# Altium footprint library TerminalBlock_CUI.PcbLib: 23 footprints (part 1 of 2)
Each footprint in its own frame and in the unit in brackets; x right, y up, seen from the top. Pads: shape width x height; smd on the part's side, far side on the other; paste and mask are expansions set on the pad; w line width, h text height; cw(c..) or ccw(c..) is an arc to the next point about the centre after c.
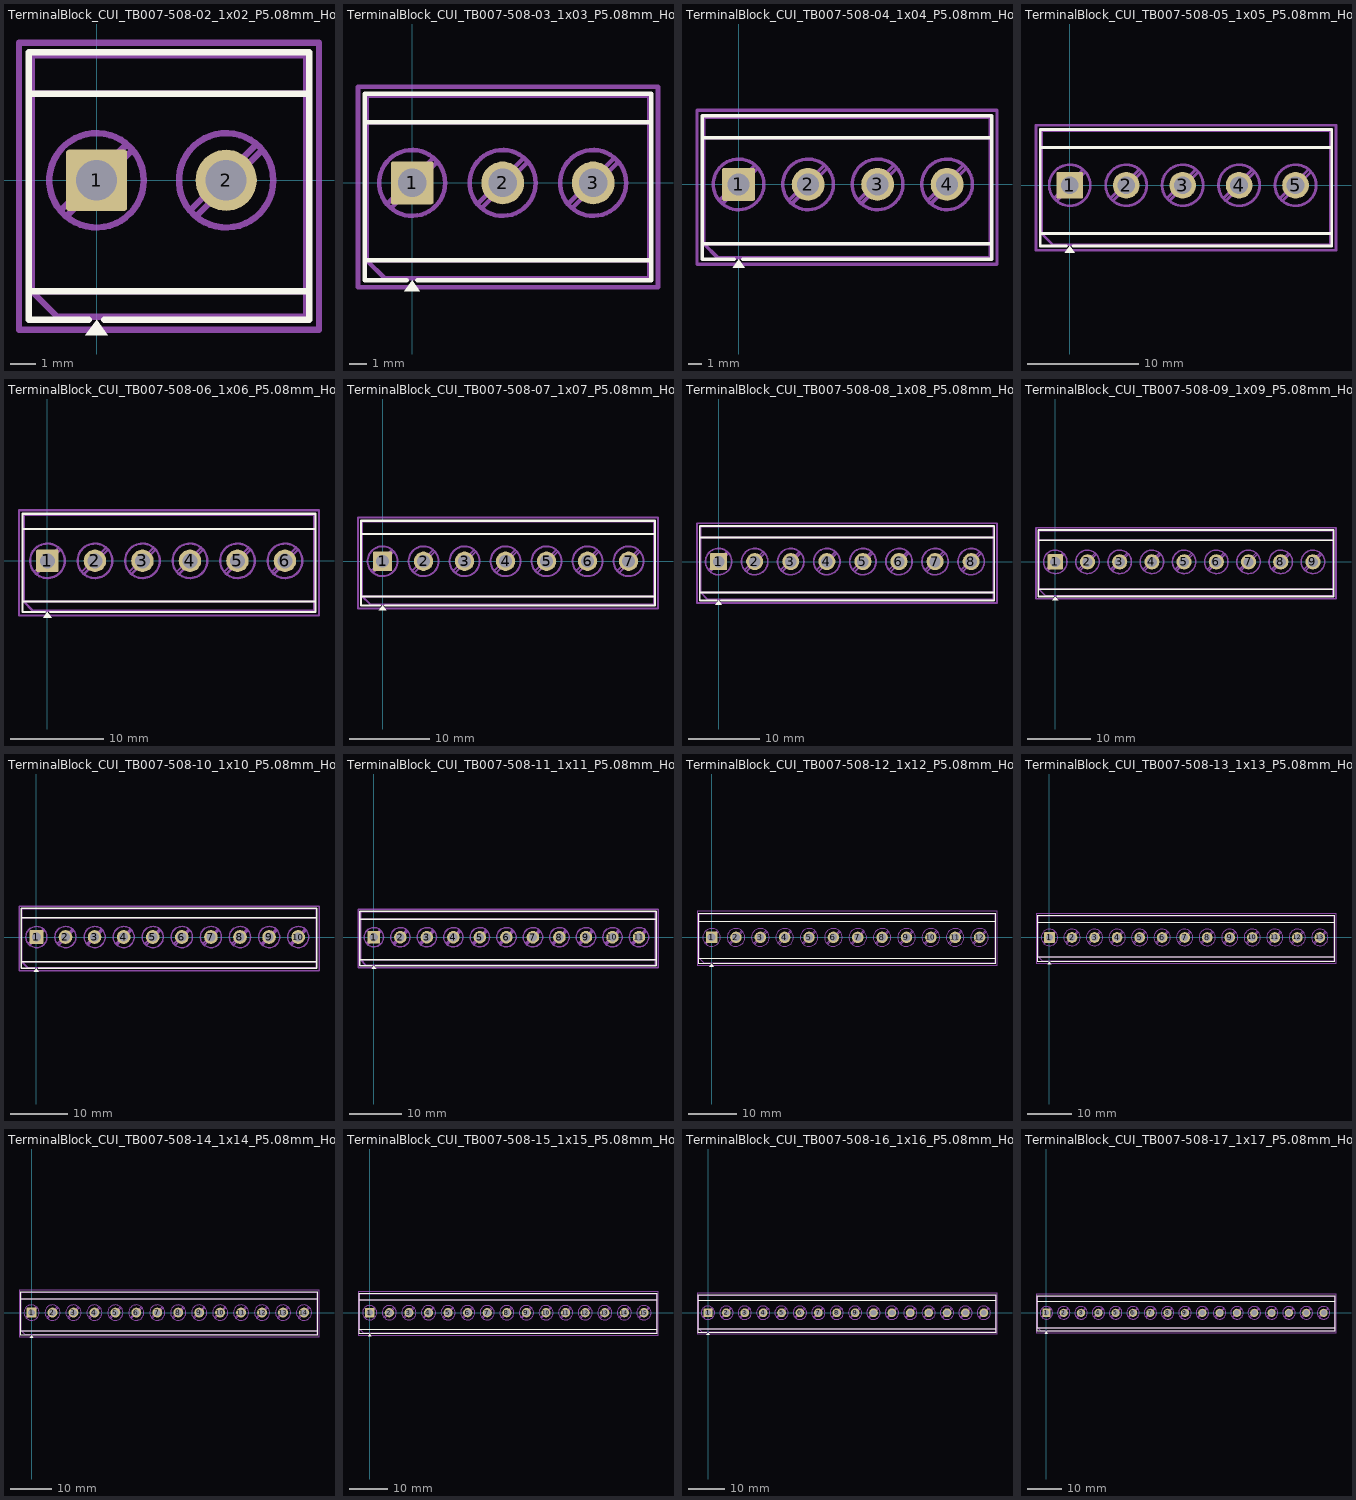
[diagram p0: the footprints below, top view; thin cyan lines are the x and y axes]

## TerminalBlock_CUI_TB007-508-02_1x02_P5.08mm_Horizontal [mm]
pads (2):
  rrect10% 2.4x2.4 hole 1.6: 1(0,0)
  round 2.4 hole 1.6: 2(5.08,0)
F.SilkS:
  region: 0.44,-6.08 -0.44,-6.08 0,-5.47
  lines w0.254: -2.66,-4.35 8.34,-4.35 ; -2.66,3.4 8.34,3.4 ; -0.3,-5.47 -2.66,-5.47 -2.66,5.02 8.34,5.02 8.34,-5.47 0.3,-5.47
F.Fab:
  circle w0.254: c0,0 r1.85
  circle w0.254: c5.08,0 r1.85
  lines w0.254: -2.54,3.4 8.22,3.4 ; -1.403,-1.177 1.177,1.403 ; -1.177,-1.403 1.403,1.177 ; 3.677,-1.177 6.257,1.403 ; 3.903,-1.403 6.483,1.177 ; 8.22,-4.35 -2.54,-4.35 ; -2.54,-4.35 -2.54,4.9 8.22,4.9 8.22,-5.35 -1.54,-5.35 -2.54,-4.35
  text "'.Designator'" at -1.207,-1.065 h1
F.CrtYd:
  lines w0.254: -3.04,-5.85 -3.04,5.4 8.72,5.4 8.72,-5.85 -3.04,-5.85

## TerminalBlock_CUI_TB007-508-03_1x03_P5.08mm_Horizontal [mm]
pads (3):
  rrect10% 2.4x2.4 hole 1.6: 1(0,0)
  round 2.4 hole 1.6: 2(5.08,0) 3(10.16,0)
F.SilkS:
  region: 0.44,-6.08 -0.44,-6.08 0,-5.47
  lines w0.254: -2.66,-4.35 13.42,-4.35 ; -2.66,3.4 13.42,3.4 ; -0.3,-5.47 -2.66,-5.47 -2.66,5.02 13.42,5.02 13.42,-5.47 0.3,-5.47
F.Fab:
  circle w0.254: c0,0 r1.85
  circle w0.254: c5.08,0 r1.85
  circle w0.254: c10.16,0 r1.85
  lines w0.254: -2.54,3.4 13.3,3.4 ; -1.403,-1.177 1.177,1.403 ; -1.177,-1.403 1.403,1.177 ; 3.677,-1.177 6.257,1.403 ; 3.903,-1.403 6.483,1.177 ; 8.757,-1.177 11.337,1.403 ; 8.983,-1.403 11.563,1.177 ; 13.3,-4.35 -2.54,-4.35 ; -2.54,-4.35 -2.54,4.9 13.3,4.9 13.3,-5.35 -1.54,-5.35 -2.54,-4.35
  text "'.Designator'" at 1.333,-1.065 h1
F.CrtYd:
  lines w0.254: -3.04,-5.85 -3.04,5.4 13.8,5.4 13.8,-5.85 -3.04,-5.85

## TerminalBlock_CUI_TB007-508-04_1x04_P5.08mm_Horizontal [mm]
pads (4):
  rrect10% 2.4x2.4 hole 1.6: 1(0,0)
  round 2.4 hole 1.6: 2(5.08,0) 3(10.16,0) 4(15.24,0)
F.SilkS:
  region: 0.44,-6.08 -0.44,-6.08 0,-5.47
  lines w0.254: -2.66,-4.35 18.5,-4.35 ; -2.66,3.4 18.5,3.4 ; -0.3,-5.47 -2.66,-5.47 -2.66,5.02 18.5,5.02 18.5,-5.47 0.3,-5.47
F.Fab:
  circle w0.254: c0,0 r1.85
  circle w0.254: c5.08,0 r1.85
  circle w0.254: c10.16,0 r1.85
  circle w0.254: c15.24,0 r1.85
  lines w0.254: -2.54,3.4 18.38,3.4 ; -1.403,-1.177 1.177,1.403 ; -1.177,-1.403 1.403,1.177 ; 3.677,-1.177 6.257,1.403 ; 3.903,-1.403 6.483,1.177 ; 8.757,-1.177 11.337,1.403 ; 8.983,-1.403 11.563,1.177 ; 13.837,-1.177 16.417,1.403 ; 14.063,-1.403 16.643,1.177 ; 18.38,-4.35 -2.54,-4.35 ; -2.54,-4.35 -2.54,4.9 18.38,4.9 18.38,-5.35 -1.54,-5.35 -2.54,-4.35
  text "'.Designator'" at 3.873,-1.065 h1
F.CrtYd:
  lines w0.254: -3.04,-5.85 -3.04,5.4 18.89,5.4 18.89,-5.85 -3.04,-5.85

## TerminalBlock_CUI_TB007-508-05_1x05_P5.08mm_Horizontal [mm]
pads (5):
  rrect10% 2.4x2.4 hole 1.6: 1(0,0)
  round 2.4 hole 1.6: 2(5.08,0) 3(10.16,0) 4(15.24,0) 5(20.32,0)
F.SilkS:
  region: 0.44,-6.08 -0.44,-6.08 0,-5.47
  lines w0.254: -2.66,-4.35 23.58,-4.35 ; -2.66,3.4 23.58,3.4 ; -0.3,-5.47 -2.66,-5.47 -2.66,5.02 23.58,5.02 23.58,-5.47 0.3,-5.47
F.Fab:
  circle w0.254: c0,0 r1.85
  circle w0.254: c5.08,0 r1.85
  circle w0.254: c10.16,0 r1.85
  circle w0.254: c15.24,0 r1.85
  circle w0.254: c20.32,0 r1.85
  lines w0.254: -2.54,3.4 23.46,3.4 ; -1.403,-1.177 1.177,1.403 ; -1.177,-1.403 1.403,1.177 ; 3.677,-1.177 6.257,1.403 ; 3.903,-1.403 6.483,1.177 ; 8.757,-1.177 11.337,1.403 ; 8.983,-1.403 11.563,1.177 ; 13.837,-1.177 16.417,1.403 ; 14.063,-1.403 16.643,1.177 ; 18.917,-1.177 21.497,1.403 ; 19.143,-1.403 21.723,1.177 ; 23.46,-4.35 -2.54,-4.35 ; -2.54,-4.35 -2.54,4.9 23.46,4.9 23.46,-5.35 -1.54,-5.35 -2.54,-4.35
  text "'.Designator'" at 6.413,-1.065 h1
F.CrtYd:
  lines w0.254: -3.04,-5.85 -3.04,5.4 23.96,5.4 23.96,-5.85 -3.04,-5.85

## TerminalBlock_CUI_TB007-508-06_1x06_P5.08mm_Horizontal [mm]
pads (6):
  rrect10% 2.4x2.4 hole 1.6: 1(0,0)
  round 2.4 hole 1.6: 2(5.08,0) 3(10.16,0) 4(15.24,0) 5(20.32,0) 6(25.4,0)
F.SilkS:
  region: 0.44,-6.08 -0.44,-6.08 0,-5.47
  lines w0.254: -2.66,-4.35 28.66,-4.35 ; -2.66,3.4 28.66,3.4 ; -0.3,-5.47 -2.66,-5.47 -2.66,5.02 28.66,5.02 28.66,-5.47 0.3,-5.47
F.Fab:
  circle w0.254: c0,0 r1.85
  circle w0.254: c5.08,0 r1.85
  circle w0.254: c10.16,0 r1.85
  circle w0.254: c15.24,0 r1.85
  circle w0.254: c20.32,0 r1.85
  circle w0.254: c25.4,0 r1.85
  lines w0.254: -2.54,3.4 28.54,3.4 ; -1.403,-1.177 1.177,1.403 ; -1.177,-1.403 1.403,1.177 ; 3.677,-1.177 6.257,1.403 ; 3.903,-1.403 6.483,1.177 ; 8.757,-1.177 11.337,1.403 ; 8.983,-1.403 11.563,1.177 ; 13.837,-1.177 16.417,1.403 ; 14.063,-1.403 16.643,1.177 ; 18.917,-1.177 21.497,1.403 ; 19.143,-1.403 21.723,1.177 ; 23.997,-1.177 26.577,1.403 ; 24.223,-1.403 26.803,1.177 ; 28.54,-4.35 -2.54,-4.35 ; -2.54,-4.35 -2.54,4.9 28.54,4.9 28.54,-5.35 -1.54,-5.35 -2.54,-4.35
  text "'.Designator'" at 8.953,-1.065 h1
F.CrtYd:
  lines w0.254: -3.04,-5.85 -3.04,5.4 29.04,5.4 29.04,-5.85 -3.04,-5.85

## TerminalBlock_CUI_TB007-508-07_1x07_P5.08mm_Horizontal [mm]
pads (7):
  rrect10% 2.4x2.4 hole 1.6: 1(0,0)
  round 2.4 hole 1.6: 2(5.08,0) 3(10.16,0) 4(15.24,0) 5(20.32,0) 6(25.4,0) 7(30.48,0)
F.SilkS:
  region: 0.44,-6.08 -0.44,-6.08 0,-5.47
  lines w0.254: -2.66,-4.35 33.74,-4.35 ; -2.66,3.4 33.74,3.4 ; -0.3,-5.47 -2.66,-5.47 -2.66,5.02 33.74,5.02 33.74,-5.47 0.3,-5.47
F.Fab:
  circle w0.254: c0,0 r1.85
  circle w0.254: c5.08,0 r1.85
  circle w0.254: c10.16,0 r1.85
  circle w0.254: c15.24,0 r1.85
  circle w0.254: c20.32,0 r1.85
  circle w0.254: c25.4,0 r1.85
  circle w0.254: c30.48,0 r1.85
  lines w0.254: -2.54,3.4 33.62,3.4 ; -1.403,-1.177 1.177,1.403 ; -1.177,-1.403 1.403,1.177 ; 3.677,-1.177 6.257,1.403 ; 3.903,-1.403 6.483,1.177 ; 8.757,-1.177 11.337,1.403 ; 8.983,-1.403 11.563,1.177 ; 13.837,-1.177 16.417,1.403 ; 14.063,-1.403 16.643,1.177 ; 18.917,-1.177 21.497,1.403 ; 19.143,-1.403 21.723,1.177 ; 23.997,-1.177 26.577,1.403 ; 24.223,-1.403 26.803,1.177 ; 29.077,-1.177 31.657,1.403 ; 29.303,-1.403 31.883,1.177 ; 33.62,-4.35 -2.54,-4.35 ; -2.54,-4.35 -2.54,4.9 33.62,4.9 33.62,-5.35 -1.54,-5.35 -2.54,-4.35
  text "'.Designator'" at 11.493,-1.065 h1
F.CrtYd:
  lines w0.254: -3.04,-5.85 -3.04,5.4 34.12,5.4 34.12,-5.85 -3.04,-5.85

## TerminalBlock_CUI_TB007-508-08_1x08_P5.08mm_Horizontal [mm]
pads (8):
  rrect10% 2.4x2.4 hole 1.6: 1(0,0)
  round 2.4 hole 1.6: 2(5.08,0) 3(10.16,0) 4(15.24,0) 5(20.32,0) 6(25.4,0) 7(30.48,0) 8(35.56,0)
F.SilkS:
  region: 0.44,-6.08 -0.44,-6.08 0,-5.47
  lines w0.254: -2.66,-4.35 38.82,-4.35 ; -2.66,3.4 38.82,3.4 ; -0.3,-5.47 -2.66,-5.47 -2.66,5.02 38.82,5.02 38.82,-5.47 0.3,-5.47
F.Fab:
  circle w0.254: c0,0 r1.85
  circle w0.254: c5.08,0 r1.85
  circle w0.254: c10.16,0 r1.85
  circle w0.254: c15.24,0 r1.85
  circle w0.254: c20.32,0 r1.85
  circle w0.254: c25.4,0 r1.85
  circle w0.254: c30.48,0 r1.85
  circle w0.254: c35.56,0 r1.85
  lines w0.254: -2.54,3.4 38.7,3.4 ; -1.403,-1.177 1.177,1.403 ; -1.177,-1.403 1.403,1.177 ; 3.677,-1.177 6.257,1.403 ; 3.903,-1.403 6.483,1.177 ; 8.757,-1.177 11.337,1.403 ; 8.983,-1.403 11.563,1.177 ; 13.837,-1.177 16.417,1.403 ; 14.063,-1.403 16.643,1.177 ; 18.917,-1.177 21.497,1.403 ; 19.143,-1.403 21.723,1.177 ; 23.997,-1.177 26.577,1.403 ; 24.223,-1.403 26.803,1.177 ; 29.077,-1.177 31.657,1.403 ; 29.303,-1.403 31.883,1.177 ; 34.157,-1.177 36.737,1.403 ; 34.383,-1.403 36.963,1.177 ; 38.7,-4.35 -2.54,-4.35 ; -2.54,-4.35 -2.54,4.9 38.7,4.9 38.7,-5.35 -1.54,-5.35 -2.54,-4.35
  text "'.Designator'" at 14.033,-1.065 h1
F.CrtYd:
  lines w0.254: -3.04,-5.85 -3.04,5.4 39.2,5.4 39.2,-5.85 -3.04,-5.85

## TerminalBlock_CUI_TB007-508-09_1x09_P5.08mm_Horizontal [mm]
pads (9):
  rrect10% 2.4x2.4 hole 1.6: 1(0,0)
  round 2.4 hole 1.6: 2(5.08,0) 3(10.16,0) 4(15.24,0) 5(20.32,0) 6(25.4,0) 7(30.48,0) 8(35.56,0) 9(40.64,0)
F.SilkS:
  region: 0.44,-6.08 -0.44,-6.08 0,-5.47
  lines w0.254: -2.66,-4.35 43.9,-4.35 ; -2.66,3.4 43.9,3.4 ; -0.3,-5.47 -2.66,-5.47 -2.66,5.02 43.9,5.02 43.9,-5.47 0.3,-5.47
F.Fab:
  circle w0.254: c0,0 r1.85
  circle w0.254: c5.08,0 r1.85
  circle w0.254: c10.16,0 r1.85
  circle w0.254: c15.24,0 r1.85
  circle w0.254: c20.32,0 r1.85
  circle w0.254: c25.4,0 r1.85
  circle w0.254: c30.48,0 r1.85
  circle w0.254: c35.56,0 r1.85
  circle w0.254: c40.64,0 r1.85
  lines w0.254: -2.54,3.4 43.78,3.4 ; -1.403,-1.177 1.177,1.403 ; -1.177,-1.403 1.403,1.177 ; 3.677,-1.177 6.257,1.403 ; 3.903,-1.403 6.483,1.177 ; 8.757,-1.177 11.337,1.403 ; 8.983,-1.403 11.563,1.177 ; 13.837,-1.177 16.417,1.403 ; 14.063,-1.403 16.643,1.177 ; 18.917,-1.177 21.497,1.403 ; 19.143,-1.403 21.723,1.177 ; 23.997,-1.177 26.577,1.403 ; 24.223,-1.403 26.803,1.177 ; 29.077,-1.177 31.657,1.403 ; 29.303,-1.403 31.883,1.177 ; 34.157,-1.177 36.737,1.403 ; 34.383,-1.403 36.963,1.177 ; 39.237,-1.177 41.817,1.403 ; 39.463,-1.403 42.043,1.177 ; 43.78,-4.35 -2.54,-4.35 ; -2.54,-4.35 -2.54,4.9 43.78,4.9 43.78,-5.35 -1.54,-5.35 -2.54,-4.35
  text "'.Designator'" at 16.573,-1.065 h1
F.CrtYd:
  lines w0.254: -3.04,-5.85 -3.04,5.4 44.28,5.4 44.28,-5.85 -3.04,-5.85

## TerminalBlock_CUI_TB007-508-10_1x10_P5.08mm_Horizontal [mm]
pads (10):
  rrect10% 2.4x2.4 hole 1.6: 1(0,0)
  round 2.4 hole 1.6: 2(5.08,0) 3(10.16,0) 4(15.24,0) 5(20.32,0) 6(25.4,0) 7(30.48,0) 8(35.56,0) 9(40.64,0) 10(45.72,0)
F.SilkS:
  region: 0.44,-6.08 -0.44,-6.08 0,-5.47
  lines w0.254: -2.66,-4.35 48.98,-4.35 ; -2.66,3.4 48.98,3.4 ; -0.3,-5.47 -2.66,-5.47 -2.66,5.02 48.98,5.02 48.98,-5.47 0.3,-5.47
F.Fab:
  circle w0.254: c0,0 r1.85
  circle w0.254: c5.08,0 r1.85
  circle w0.254: c10.16,0 r1.85
  circle w0.254: c15.24,0 r1.85
  circle w0.254: c20.32,0 r1.85
  circle w0.254: c25.4,0 r1.85
  circle w0.254: c30.48,0 r1.85
  circle w0.254: c35.56,0 r1.85
  circle w0.254: c40.64,0 r1.85
  circle w0.254: c45.72,0 r1.85
  lines w0.254: -2.54,3.4 48.86,3.4 ; -1.403,-1.177 1.177,1.403 ; -1.177,-1.403 1.403,1.177 ; 3.677,-1.177 6.257,1.403 ; 3.903,-1.403 6.483,1.177 ; 8.757,-1.177 11.337,1.403 ; 8.983,-1.403 11.563,1.177 ; 13.837,-1.177 16.417,1.403 ; 14.063,-1.403 16.643,1.177 ; 18.917,-1.177 21.497,1.403 ; 19.143,-1.403 21.723,1.177 ; 23.997,-1.177 26.577,1.403 ; 24.223,-1.403 26.803,1.177 ; 29.077,-1.177 31.657,1.403 ; 29.303,-1.403 31.883,1.177 ; 34.157,-1.177 36.737,1.403 ; 34.383,-1.403 36.963,1.177 ; 39.237,-1.177 41.817,1.403 ; 39.463,-1.403 42.043,1.177 ; 44.317,-1.177 46.897,1.403 ; 44.543,-1.403 47.123,1.177 ; 48.86,-4.35 -2.54,-4.35 ; -2.54,-4.35 -2.54,4.9 48.86,4.9 48.86,-5.35 -1.54,-5.35 -2.54,-4.35
  text "'.Designator'" at 19.113,-1.065 h1
F.CrtYd:
  lines w0.254: -3.04,-5.85 -3.04,5.4 49.36,5.4 49.36,-5.85 -3.04,-5.85

## TerminalBlock_CUI_TB007-508-11_1x11_P5.08mm_Horizontal [mm]
pads (11):
  rrect10% 2.4x2.4 hole 1.6: 1(0,0)
  round 2.4 hole 1.6: 2(5.08,0) 3(10.16,0) 4(15.24,0) 5(20.32,0) 6(25.4,0) 7(30.48,0) 8(35.56,0) 9(40.64,0) 10(45.72,0) 11(50.8,0)
F.SilkS:
  region: 0.44,-6.08 -0.44,-6.08 0,-5.47
  lines w0.254: -2.66,-4.35 54.06,-4.35 ; -2.66,3.4 54.06,3.4 ; -0.3,-5.47 -2.66,-5.47 -2.66,5.02 54.06,5.02 54.06,-5.47 0.3,-5.47
F.Fab:
  circle w0.254: c0,0 r1.85
  circle w0.254: c5.08,0 r1.85
  circle w0.254: c10.16,0 r1.85
  circle w0.254: c15.24,0 r1.85
  circle w0.254: c20.32,0 r1.85
  circle w0.254: c25.4,0 r1.85
  circle w0.254: c30.48,0 r1.85
  circle w0.254: c35.56,0 r1.85
  circle w0.254: c40.64,0 r1.85
  circle w0.254: c45.72,0 r1.85
  circle w0.254: c50.8,0 r1.85
  lines w0.254: -2.54,3.4 53.94,3.4 ; -1.403,-1.177 1.177,1.403 ; -1.177,-1.403 1.403,1.177 ; 3.677,-1.177 6.257,1.403 ; 3.903,-1.403 6.483,1.177 ; 8.757,-1.177 11.337,1.403 ; 8.983,-1.403 11.563,1.177 ; 13.837,-1.177 16.417,1.403 ; 14.063,-1.403 16.643,1.177 ; 18.917,-1.177 21.497,1.403 ; 19.143,-1.403 21.723,1.177 ; 23.997,-1.177 26.577,1.403 ; 24.223,-1.403 26.803,1.177 ; 29.077,-1.177 31.657,1.403 ; 29.303,-1.403 31.883,1.177 ; 34.157,-1.177 36.737,1.403 ; 34.383,-1.403 36.963,1.177 ; 39.237,-1.177 41.817,1.403 ; 39.463,-1.403 42.043,1.177 ; 44.317,-1.177 46.897,1.403 ; 44.543,-1.403 47.123,1.177 ; 49.397,-1.177 51.977,1.403 ; 49.623,-1.403 52.203,1.177 ; 53.94,-4.35 -2.54,-4.35 ; -2.54,-4.35 -2.54,4.9 53.94,4.9 53.94,-5.35 -1.54,-5.35 -2.54,-4.35
  text "'.Designator'" at 21.653,-1.065 h1
F.CrtYd:
  lines w0.254: -3.04,-5.85 -3.04,5.4 54.44,5.4 54.44,-5.85 -3.04,-5.85

## TerminalBlock_CUI_TB007-508-12_1x12_P5.08mm_Horizontal [mm]
pads (12):
  rrect10% 2.4x2.4 hole 1.6: 1(0,0)
  round 2.4 hole 1.6: 2(5.08,0) 3(10.16,0) 4(15.24,0) 5(20.32,0) 6(25.4,0) 7(30.48,0) 8(35.56,0) 9(40.64,0) 10(45.72,0) 11(50.8,0) 12(55.88,0)
F.SilkS:
  region: 0.44,-6.08 -0.44,-6.08 0,-5.47
  lines w0.254: -2.66,-4.35 59.14,-4.35 ; -2.66,3.4 59.14,3.4 ; -0.3,-5.47 -2.66,-5.47 -2.66,5.02 59.14,5.02 59.14,-5.47 0.3,-5.47
F.Fab:
  circle w0.254: c0,0 r1.85
  circle w0.254: c5.08,0 r1.85
  circle w0.254: c10.16,0 r1.85
  circle w0.254: c15.24,0 r1.85
  circle w0.254: c20.32,0 r1.85
  circle w0.254: c25.4,0 r1.85
  circle w0.254: c30.48,0 r1.85
  circle w0.254: c35.56,0 r1.85
  circle w0.254: c40.64,0 r1.85
  circle w0.254: c45.72,0 r1.85
  circle w0.254: c50.8,0 r1.85
  circle w0.254: c55.88,0 r1.85
  lines w0.254: -2.54,3.4 59.02,3.4 ; -1.403,-1.177 1.177,1.403 ; -1.177,-1.403 1.403,1.177 ; 3.677,-1.177 6.257,1.403 ; 3.903,-1.403 6.483,1.177 ; 8.757,-1.177 11.337,1.403 ; 8.983,-1.403 11.563,1.177 ; 13.837,-1.177 16.417,1.403 ; 14.063,-1.403 16.643,1.177 ; 18.917,-1.177 21.497,1.403 ; 19.143,-1.403 21.723,1.177 ; 23.997,-1.177 26.577,1.403 ; 24.223,-1.403 26.803,1.177 ; 29.077,-1.177 31.657,1.403 ; 29.303,-1.403 31.883,1.177 ; 34.157,-1.177 36.737,1.403 ; 34.383,-1.403 36.963,1.177 ; 39.237,-1.177 41.817,1.403 ; 39.463,-1.403 42.043,1.177 ; 44.317,-1.177 46.897,1.403 ; 44.543,-1.403 47.123,1.177 ; 49.397,-1.177 51.977,1.403 ; 49.623,-1.403 52.203,1.177 ; 54.477,-1.177 57.057,1.403 ; 54.703,-1.403 57.283,1.177 ; 59.02,-4.35 -2.54,-4.35 ; -2.54,-4.35 -2.54,4.9 59.02,4.9 59.02,-5.35 -1.54,-5.35 -2.54,-4.35
  text "'.Designator'" at 24.193,-1.065 h1
F.CrtYd:
  lines w0.254: -3.04,-5.85 -3.04,5.4 59.52,5.4 59.52,-5.85 -3.04,-5.85

## TerminalBlock_CUI_TB007-508-13_1x13_P5.08mm_Horizontal [mm]
pads (13):
  rrect10% 2.4x2.4 hole 1.6: 1(0,0)
  round 2.4 hole 1.6: 2(5.08,0) 3(10.16,0) 4(15.24,0) 5(20.32,0) 6(25.4,0) 7(30.48,0) 8(35.56,0) 9(40.64,0) 10(45.72,0) 11(50.8,0) 12(55.88,0) 13(60.96,0)
F.SilkS:
  region: 0.44,-6.08 -0.44,-6.08 0,-5.47
  lines w0.254: -2.66,-4.35 64.22,-4.35 ; -2.66,3.4 64.22,3.4 ; -0.3,-5.47 -2.66,-5.47 -2.66,5.02 64.22,5.02 64.22,-5.47 0.3,-5.47
F.Fab:
  circle w0.254: c0,0 r1.85
  circle w0.254: c5.08,0 r1.85
  circle w0.254: c10.16,0 r1.85
  circle w0.254: c15.24,0 r1.85
  circle w0.254: c20.32,0 r1.85
  circle w0.254: c25.4,0 r1.85
  circle w0.254: c30.48,0 r1.85
  circle w0.254: c35.56,0 r1.85
  circle w0.254: c40.64,0 r1.85
  circle w0.254: c45.72,0 r1.85
  circle w0.254: c50.8,0 r1.85
  circle w0.254: c55.88,0 r1.85
  circle w0.254: c60.96,0 r1.85
  lines w0.254: -2.54,3.4 64.1,3.4 ; -1.403,-1.177 1.177,1.403 ; -1.177,-1.403 1.403,1.177 ; 3.677,-1.177 6.257,1.403 ; 3.903,-1.403 6.483,1.177 ; 8.757,-1.177 11.337,1.403 ; 8.983,-1.403 11.563,1.177 ; 13.837,-1.177 16.417,1.403 ; 14.063,-1.403 16.643,1.177 ; 18.917,-1.177 21.497,1.403 ; 19.143,-1.403 21.723,1.177 ; 23.997,-1.177 26.577,1.403 ; 24.223,-1.403 26.803,1.177 ; 29.077,-1.177 31.657,1.403 ; 29.303,-1.403 31.883,1.177 ; 34.157,-1.177 36.737,1.403 ; 34.383,-1.403 36.963,1.177 ; 39.237,-1.177 41.817,1.403 ; 39.463,-1.403 42.043,1.177 ; 44.317,-1.177 46.897,1.403 ; 44.543,-1.403 47.123,1.177 ; 49.397,-1.177 51.977,1.403 ; 49.623,-1.403 52.203,1.177 ; 54.477,-1.177 57.057,1.403 ; 54.703,-1.403 57.283,1.177 ; 59.557,-1.177 62.137,1.403 ; 59.783,-1.403 62.363,1.177 ; 64.1,-4.35 -2.54,-4.35 ; -2.54,-4.35 -2.54,4.9 64.1,4.9 64.1,-5.35 -1.54,-5.35 -2.54,-4.35
  text "'.Designator'" at 26.733,-1.065 h1
F.CrtYd:
  lines w0.254: -3.04,-5.85 -3.04,5.4 64.6,5.4 64.6,-5.85 -3.04,-5.85

## TerminalBlock_CUI_TB007-508-14_1x14_P5.08mm_Horizontal [mm]
pads (14):
  rrect10% 2.4x2.4 hole 1.6: 1(0,0)
  round 2.4 hole 1.6: 2(5.08,0) 3(10.16,0) 4(15.24,0) 5(20.32,0) 6(25.4,0) 7(30.48,0) 8(35.56,0) 9(40.64,0) 10(45.72,0) 11(50.8,0) 12(55.88,0) 13(60.96,0) 14(66.04,0)
F.SilkS:
  region: 0.44,-6.08 -0.44,-6.08 0,-5.47
  lines w0.254: -2.66,-4.35 69.3,-4.35 ; -2.66,3.4 69.3,3.4 ; -0.3,-5.47 -2.66,-5.47 -2.66,5.02 69.3,5.02 69.3,-5.47 0.3,-5.47
F.Fab:
  circle w0.254: c0,0 r1.85
  circle w0.254: c5.08,0 r1.85
  circle w0.254: c10.16,0 r1.85
  circle w0.254: c15.24,0 r1.85
  circle w0.254: c20.32,0 r1.85
  circle w0.254: c25.4,0 r1.85
  circle w0.254: c30.48,0 r1.85
  circle w0.254: c35.56,0 r1.85
  circle w0.254: c40.64,0 r1.85
  circle w0.254: c45.72,0 r1.85
  circle w0.254: c50.8,0 r1.85
  circle w0.254: c55.88,0 r1.85
  circle w0.254: c60.96,0 r1.85
  circle w0.254: c66.04,0 r1.85
  lines w0.254: -2.54,3.4 69.18,3.4 ; -1.403,-1.177 1.177,1.403 ; -1.177,-1.403 1.403,1.177 ; 3.677,-1.177 6.257,1.403 ; 3.903,-1.403 6.483,1.177 ; 8.757,-1.177 11.337,1.403 ; 8.983,-1.403 11.563,1.177 ; 13.837,-1.177 16.417,1.403 ; 14.063,-1.403 16.643,1.177 ; 18.917,-1.177 21.497,1.403 ; 19.143,-1.403 21.723,1.177 ; 23.997,-1.177 26.577,1.403 ; 24.223,-1.403 26.803,1.177 ; 29.077,-1.177 31.657,1.403 ; 29.303,-1.403 31.883,1.177 ; 34.157,-1.177 36.737,1.403 ; 34.383,-1.403 36.963,1.177 ; 39.237,-1.177 41.817,1.403 ; 39.463,-1.403 42.043,1.177 ; 44.317,-1.177 46.897,1.403 ; 44.543,-1.403 47.123,1.177 ; 49.397,-1.177 51.977,1.403 ; 49.623,-1.403 52.203,1.177 ; 54.477,-1.177 57.057,1.403 ; 54.703,-1.403 57.283,1.177 ; 59.557,-1.177 62.137,1.403 ; 59.783,-1.403 62.363,1.177 ; 64.637,-1.177 67.217,1.403 ; 64.863,-1.403 67.443,1.177 ; 69.18,-4.35 -2.54,-4.35 ; -2.54,-4.35 -2.54,4.9 69.18,4.9 69.18,-5.35 -1.54,-5.35 -2.54,-4.35
  text "'.Designator'" at 29.273,-1.065 h1
F.CrtYd:
  lines w0.254: -3.04,-5.85 -3.04,5.4 69.68,5.4 69.68,-5.85 -3.04,-5.85

## TerminalBlock_CUI_TB007-508-15_1x15_P5.08mm_Horizontal [mm]
pads (15):
  rrect10% 2.4x2.4 hole 1.6: 1(0,0)
  round 2.4 hole 1.6: 2(5.08,0) 3(10.16,0) 4(15.24,0) 5(20.32,0) 6(25.4,0) 7(30.48,0) 8(35.56,0) 9(40.64,0) 10(45.72,0) 11(50.8,0) 12(55.88,0) 13(60.96,0) 14(66.04,0) 15(71.12,0)
F.SilkS:
  region: 0.44,-6.08 -0.44,-6.08 0,-5.47
  lines w0.254: -2.66,-4.35 74.38,-4.35 ; -2.66,3.4 74.38,3.4 ; -0.3,-5.47 -2.66,-5.47 -2.66,5.02 74.38,5.02 74.38,-5.47 0.3,-5.47
F.Fab:
  circle w0.254: c0,0 r1.85
  circle w0.254: c5.08,0 r1.85
  circle w0.254: c10.16,0 r1.85
  circle w0.254: c15.24,0 r1.85
  circle w0.254: c20.32,0 r1.85
  circle w0.254: c25.4,0 r1.85
  circle w0.254: c30.48,0 r1.85
  circle w0.254: c35.56,0 r1.85
  circle w0.254: c40.64,0 r1.85
  circle w0.254: c45.72,0 r1.85
  circle w0.254: c50.8,0 r1.85
  circle w0.254: c55.88,0 r1.85
  circle w0.254: c60.96,0 r1.85
  circle w0.254: c66.04,0 r1.85
  circle w0.254: c71.12,0 r1.85
  lines w0.254: -2.54,3.4 74.26,3.4 ; -1.403,-1.177 1.177,1.403 ; -1.177,-1.403 1.403,1.177 ; 3.677,-1.177 6.257,1.403 ; 3.903,-1.403 6.483,1.177 ; 8.757,-1.177 11.337,1.403 ; 8.983,-1.403 11.563,1.177 ; 13.837,-1.177 16.417,1.403 ; 14.063,-1.403 16.643,1.177 ; 18.917,-1.177 21.497,1.403 ; 19.143,-1.403 21.723,1.177 ; 23.997,-1.177 26.577,1.403 ; 24.223,-1.403 26.803,1.177 ; 29.077,-1.177 31.657,1.403 ; 29.303,-1.403 31.883,1.177 ; 34.157,-1.177 36.737,1.403 ; 34.383,-1.403 36.963,1.177 ; 39.237,-1.177 41.817,1.403 ; 39.463,-1.403 42.043,1.177 ; 44.317,-1.177 46.897,1.403 ; 44.543,-1.403 47.123,1.177 ; 49.397,-1.177 51.977,1.403 ; 49.623,-1.403 52.203,1.177 ; 54.477,-1.177 57.057,1.403 ; 54.703,-1.403 57.283,1.177 ; 59.557,-1.177 62.137,1.403 ; 59.783,-1.403 62.363,1.177 ; 64.637,-1.177 67.217,1.403 ; 64.863,-1.403 67.443,1.177 ; 69.717,-1.177 72.297,1.403 ; 69.943,-1.403 72.523,1.177 ; 74.26,-4.35 -2.54,-4.35 ; -2.54,-4.35 -2.54,4.9 74.26,4.9 74.26,-5.35 -1.54,-5.35 -2.54,-4.35
  text "'.Designator'" at 31.813,-1.065 h1
F.CrtYd:
  lines w0.254: -3.04,-5.85 -3.04,5.4 74.76,5.4 74.76,-5.85 -3.04,-5.85

## TerminalBlock_CUI_TB007-508-16_1x16_P5.08mm_Horizontal [mm]
pads (16):
  rrect10% 2.4x2.4 hole 1.6: 1(0,0)
  round 2.4 hole 1.6: 2(5.08,0) 3(10.16,0) 4(15.24,0) 5(20.32,0) 6(25.4,0) 7(30.48,0) 8(35.56,0) 9(40.64,0) 10(45.72,0) 11(50.8,0) 12(55.88,0) 13(60.96,0) 14(66.04,0) 15(71.12,0) 16(76.2,0)
F.SilkS:
  region: 0.44,-6.08 -0.44,-6.08 0,-5.47
  lines w0.254: -2.66,-4.35 79.46,-4.35 ; -2.66,3.4 79.46,3.4 ; -0.3,-5.47 -2.66,-5.47 -2.66,5.02 79.46,5.02 79.46,-5.47 0.3,-5.47
F.Fab:
  circle w0.254: c0,0 r1.85
  circle w0.254: c5.08,0 r1.85
  circle w0.254: c10.16,0 r1.85
  circle w0.254: c15.24,0 r1.85
  circle w0.254: c20.32,0 r1.85
  circle w0.254: c25.4,0 r1.85
  circle w0.254: c30.48,0 r1.85
  circle w0.254: c35.56,0 r1.85
  circle w0.254: c40.64,0 r1.85
  circle w0.254: c45.72,0 r1.85
  circle w0.254: c50.8,0 r1.85
  circle w0.254: c55.88,0 r1.85
  circle w0.254: c60.96,0 r1.85
  circle w0.254: c66.04,0 r1.85
  circle w0.254: c71.12,0 r1.85
  circle w0.254: c76.2,0 r1.85
  lines w0.254: -2.54,3.4 79.34,3.4 ; -1.403,-1.177 1.177,1.403 ; -1.177,-1.403 1.403,1.177 ; 3.677,-1.177 6.257,1.403 ; 3.903,-1.403 6.483,1.177 ; 8.757,-1.177 11.337,1.403 ; 8.983,-1.403 11.563,1.177 ; 13.837,-1.177 16.417,1.403 ; 14.063,-1.403 16.643,1.177 ; 18.917,-1.177 21.497,1.403 ; 19.143,-1.403 21.723,1.177 ; 23.997,-1.177 26.577,1.403 ; 24.223,-1.403 26.803,1.177 ; 29.077,-1.177 31.657,1.403 ; 29.303,-1.403 31.883,1.177 ; 34.157,-1.177 36.737,1.403 ; 34.383,-1.403 36.963,1.177 ; 39.237,-1.177 41.817,1.403 ; 39.463,-1.403 42.043,1.177 ; 44.317,-1.177 46.897,1.403 ; 44.543,-1.403 47.123,1.177 ; 49.397,-1.177 51.977,1.403 ; 49.623,-1.403 52.203,1.177 ; 54.477,-1.177 57.057,1.403 ; 54.703,-1.403 57.283,1.177 ; 59.557,-1.177 62.137,1.403 ; 59.783,-1.403 62.363,1.177 ; 64.637,-1.177 67.217,1.403 ; 64.863,-1.403 67.443,1.177 ; 69.717,-1.177 72.297,1.403 ; 69.943,-1.403 72.523,1.177 ; 74.797,-1.177 77.377,1.403 ; 75.023,-1.403 77.603,1.177 ; 79.34,-4.35 -2.54,-4.35 ; -2.54,-4.35 -2.54,4.9 79.34,4.9 79.34,-5.35 -1.54,-5.35 -2.54,-4.35
  text "'.Designator'" at 34.353,-1.065 h1
F.CrtYd:
  lines w0.254: -3.04,-5.85 -3.04,5.4 79.84,5.4 79.84,-5.85 -3.04,-5.85

## TerminalBlock_CUI_TB007-508-17_1x17_P5.08mm_Horizontal [mm]
pads (17):
  rrect10% 2.4x2.4 hole 1.6: 1(0,0)
  round 2.4 hole 1.6: 2(5.08,0) 3(10.16,0) 4(15.24,0) 5(20.32,0) 6(25.4,0) 7(30.48,0) 8(35.56,0) 9(40.64,0) 10(45.72,0) 11(50.8,0) 12(55.88,0) 13(60.96,0) 14(66.04,0) 15(71.12,0) 16(76.2,0) 17(81.28,0)
F.SilkS:
  region: 0.44,-6.08 -0.44,-6.08 0,-5.47
  lines w0.254: -2.66,-4.35 84.54,-4.35 ; -2.66,3.4 84.54,3.4 ; -0.3,-5.47 -2.66,-5.47 -2.66,5.02 84.54,5.02 84.54,-5.47 0.3,-5.47
F.Fab:
  circle w0.254: c0,0 r1.85
  circle w0.254: c5.08,0 r1.85
  circle w0.254: c10.16,0 r1.85
  circle w0.254: c15.24,0 r1.85
  circle w0.254: c20.32,0 r1.85
  circle w0.254: c25.4,0 r1.85
  circle w0.254: c30.48,0 r1.85
  circle w0.254: c35.56,0 r1.85
  circle w0.254: c40.64,0 r1.85
  circle w0.254: c45.72,0 r1.85
  circle w0.254: c50.8,0 r1.85
  circle w0.254: c55.88,0 r1.85
  circle w0.254: c60.96,0 r1.85
  circle w0.254: c66.04,0 r1.85
  circle w0.254: c71.12,0 r1.85
  circle w0.254: c76.2,0 r1.85
  circle w0.254: c81.28,0 r1.85
  lines w0.254: -2.54,3.4 84.42,3.4 ; -1.403,-1.177 1.177,1.403 ; -1.177,-1.403 1.403,1.177 ; 3.677,-1.177 6.257,1.403 ; 3.903,-1.403 6.483,1.177 ; 8.757,-1.177 11.337,1.403 ; 8.983,-1.403 11.563,1.177 ; 13.837,-1.177 16.417,1.403 ; 14.063,-1.403 16.643,1.177 ; 18.917,-1.177 21.497,1.403 ; 19.143,-1.403 21.723,1.177 ; 23.997,-1.177 26.577,1.403 ; 24.223,-1.403 26.803,1.177 ; 29.077,-1.177 31.657,1.403 ; 29.303,-1.403 31.883,1.177 ; 34.157,-1.177 36.737,1.403 ; 34.383,-1.403 36.963,1.177 ; 39.237,-1.177 41.817,1.403 ; 39.463,-1.403 42.043,1.177 ; 44.317,-1.177 46.897,1.403 ; 44.543,-1.403 47.123,1.177 ; 49.397,-1.177 51.977,1.403 ; 49.623,-1.403 52.203,1.177 ; 54.477,-1.177 57.057,1.403 ; 54.703,-1.403 57.283,1.177 ; 59.557,-1.177 62.137,1.403 ; 59.783,-1.403 62.363,1.177 ; 64.637,-1.177 67.217,1.403 ; 64.863,-1.403 67.443,1.177 ; 69.717,-1.177 72.297,1.403 ; 69.943,-1.403 72.523,1.177 ; 74.797,-1.177 77.377,1.403 ; 75.023,-1.403 77.603,1.177 ; 79.877,-1.177 82.457,1.403 ; 80.103,-1.403 82.683,1.177 ; 84.42,-4.35 -2.54,-4.35 ; -2.54,-4.35 -2.54,4.9 84.42,4.9 84.42,-5.35 -1.54,-5.35 -2.54,-4.35
  text "'.Designator'" at 36.893,-1.065 h1
F.CrtYd:
  lines w0.254: -3.04,-5.85 -3.04,5.4 84.92,5.4 84.92,-5.85 -3.04,-5.85